# Altium footprint library PcbLib1.PcbLib: 4 footprints
Each footprint in its own frame and in the unit in brackets; x right, y up, seen from the top. Pads: shape width x height; smd on the part's side, far side on the other; paste and mask are expansions set on the pad; w line width, h text height; cw(c..) or ccw(c..) is an arc to the next point about the centre after c.
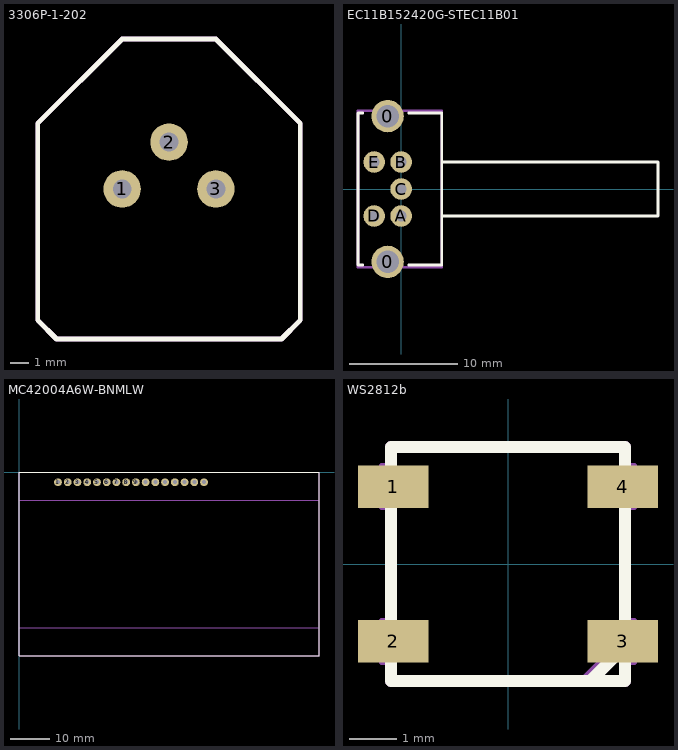
[diagram p0: the footprints below, top view; thin cyan lines are the x and y axes]

## 3306P-1-202 [mm]
pads (3):
  round 2 hole 1: 1(-1190,-1165) 2(-1187.5,-1162.5) 3(-1185,-1165)
Top Overlay:
  lines w0.254: -1194.5,-1161.5 -1194.5,-1161.5 ; -1194.5,-1161.5 -1190,-1157 -1185,-1157 -1180.5,-1161.5 -1180.5,-1172 -1181.5,-1173 -1193.5,-1173 -1194.5,-1172 -1194.5,-1161.5
Mechanical 1:
  lines w0.254: -1194.5,-1172 -1193.5,-1173 -1181.5,-1173 -1180.5,-1172 -1180.5,-1161.5 -1185,-1157 -1190,-1157 -1194.5,-1161.5 -1194.5,-1172

## EC11B152420G-STEC11B01 [mm]
pads (7):
  round 3 hole 2.1: 0(-1.25,-6.75) 0(-1.25,6.75)
  round 2 hole 1: A(0,-2.5) B(0,2.5) C(0,0) D(-2.5,-2.5) E(-2.5,2.5)
Top Overlay:
  lines w0.254: -3.55,-7.05 -4,-7.05 -4,7.05 -3.55,7.05 ; 0.7,-7.05 3.75,-7.05 3.75,7.05 0.7,7.05 ; 3.75,-2.5 23.8,-2.5 23.8,2.5 3.75,2.5
Mechanical 1:
  lines w0.254: -4,-7.25 -4,7.25 3.75,7.25 3.75,-7.25 -4,-7.25

## MC42004A6W-BNMLW [mm]
pads (16):
  round 2 hole 1: 1(10,-2.5) 2(12.5,-2.5) 3(15,-2.5) 4(17.5,-2.5) 5(20,-2.5) 6(22.5,-2.5) 7(25,-2.5) 8(27.5,-2.5) 9(30,-2.5) 10(32.5,-2.5) 11(35,-2.5) 12(37.5,-2.5) 13(40,-2.5) 14(42.5,-2.5) 15(45,-2.5) 16(47.5,-2.5)
Top Overlay:
  lines w0.254: 0,-47 77,-47 77,0 0,0 0,-47
Mechanical 1:
  lines w0.254: 0,-39.8 77,-39.8 ; 0,-7.2 77,-7.2 ; 0,-47 77,-47 77,0 0,0 0,-47

## WS2812b [mm]
pads (4):
  rect 1.5x0.9 smd: 1(-2.45,1.65) 2(-2.45,-1.65) 3(2.45,-1.65) 4(2.45,1.65)
Top Overlay:
  lines w0.254: 1.75,-2.5 2.5,-1.75 ; -2.5,-2.5 -2.5,2.5 2.5,2.5 2.5,-2.5 -2.5,-2.5
Mechanical 1:
  lines w0.1: -2.6,-2.1 -2.7,-2.1 -2.7,-1.2 -2.5,-1.2 ; -2.6,1.2 -2.7,1.2 -2.7,2.1 -2.6,2.1 ; 2.5,-1.2 2.7,-1.2 2.7,-2.1 2.6,-2.1 ; 2.55,1.2 2.7,1.2 2.7,2.1 2.6,2.1
  lines w0.254: 1.524,-2.5 1.651,-2.5 2.5,-1.651 ; 2.5,-2.5 -2.5,-2.5 -2.5,2.5 2.5,2.5